# Altium integrated library lora.IntLib: 2 symbols
Pins are listed as number, name and electrical type; pins without a type are passive.

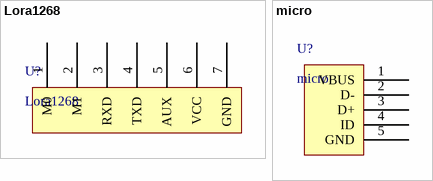
[diagram p0: symbols Lora1268 to micro]

## Lora1268
designator U?
footprint Lora模块
pins: 1 M0, 2 M1, 3 RXD, 4 TXD, 5 AUX, 6 VCC, 7 GND

## micro
designator U?
footprint micro
pins: 1 VBUS, 2 D-, 3 D+, 4 ID, 5 GND